# Altium footprint library Flex_DFN8-33x33.PcbLib: 1 footprints
Each footprint in its own frame and in the unit in brackets; x right, y up, seen from the top. Pads: shape width x height; smd on the part's side, far side on the other; paste and mask are expansions set on the pad; w line width, h text height; cw(c..) or ccw(c..) is an arc to the next point about the centre after c.
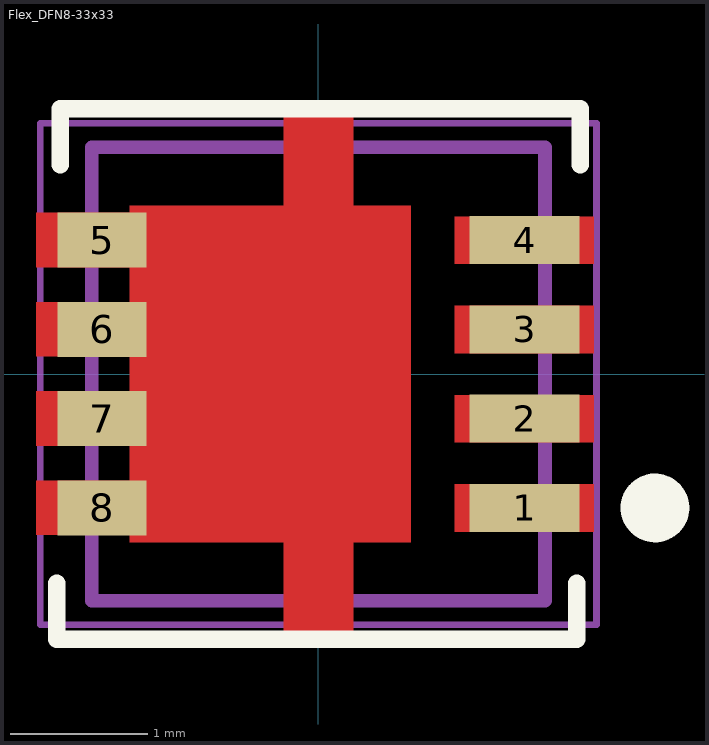
[diagram p0: the footprint, top view; thin cyan lines are the x and y axes]

## Flex_DFN8-33x33 [mm] "SON, 8-Leads, Body 3.3x3.3mm, Pitch 0.65mm"
height 1.1
pads (8):
  rect 0.8x0.35 smd paste-0.03: 1(1.5,-0.975) 2(1.5,-0.325) 3(1.5,0.325) 4(1.5,0.975)
  rect 0.65x0.4 smd paste-0.03 mask+0.102: 5(-1.575,0.975) 6(-1.575,0.325) 7(-1.575,-0.325) 8(-1.575,-0.975)
Top Layer:
  rectangle: -1.375,-1.225 0.675,1.225
  rectangle: -0.254,1.194 0.254,1.88
  rectangle: -0.254,-1.88 0.254,-1.194
  rectangle: 0.991,-0.5 2.007,-0.152
  rectangle: 0.991,-1.15 2.007,-0.802
  rectangle: 0.991,0.15 2.007,0.498
  rectangle: 0.991,0.8 2.007,1.148
  rectangle: -2.057,0.127 -1.27,0.525
  rectangle: -2.057,-0.523 -1.27,-0.125
  rectangle: -2.057,-1.173 -1.27,-0.775
  rectangle: -2.057,0.777 -1.27,1.175
Top Overlay:
  circle w0.25: c2.45,-0.975 r0.125
  lines w0.127: -1.905,-1.524 -1.905,-1.93 1.88,-1.93 1.88,-1.524 ; -1.88,1.524 -1.88,1.93 1.905,1.93 1.905,1.524
Top Paste:
  rectangle: -1.016,0.127 0.559,1.194
  rectangle: -1.016,-1.194 0.559,-0.127
Top Solder:
  region: 1.118,1.27 1.118,1.295 1.137,1.342 1.173,1.378 1.219,1.397 1.245,1.397 1.753,1.397 1.778,1.397 1.825,1.378 1.86,1.342 1.88,1.295 1.88,1.27 1.88,-1.27 1.88,-1.295 1.86,-1.342 1.825,-1.378 1.778,-1.397 1.753,-1.397 1.245,-1.397 1.219,-1.397 1.173,-1.378 1.137,-1.342 1.118,-1.295 1.118,-1.27
  region: 0.35,1.75 0.4,1.75 0.492,1.712 0.562,1.642 0.6,1.55 0.6,1.5 0.6,-1.525 0.6,-1.57 0.566,-1.652 0.502,-1.716 0.42,-1.75 0.375,-1.75 -1.575,-1.75 -1.625,-1.75 -1.717,-1.712 -1.787,-1.642 -1.825,-1.55 -1.825,-1.5 -1.825,1.55 -1.825,1.59 -1.795,1.663 -1.738,1.72 -1.665,1.75 -1.625,1.75
Mechanical 13:
  lines w0.1: -1.65,-1.65 -1.65,1.65 1.65,1.65 1.65,-1.65 -1.65,-1.65
Mechanical 15:
  lines w0.05: -2.025,-1.825 -2.025,1.825 2.025,1.825 2.025,-1.825 -2.025,-1.825
  lines w0.1: -0.5,0 0.5,0 ; 0,-0.5 0,0.5
3D body: height 1.1, standoff 0, extent -1.65,-1.65 1.65,1.65